# Altium schematic symbol library LTC1983.SchLib: 1 symbol
Pins are listed as number, name and electrical type; pins without a type are passive.

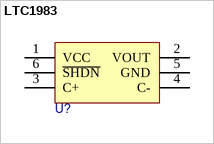
[diagram p0: symbol LTC1983]

## LTC1983
designator U?
pins: 1 VCC, 2 VOUT, 3 C+, 4 C-, 5 GND, 6 ~{SHDN}